# Altium footprint library airu-board.PCBLIB: 118 footprints (part 3 of 8)
Each footprint in its own frame and in the unit in brackets; x right, y up, seen from the top. Pads: shape width x height; smd on the part's side, far side on the other; paste and mask are expansions set on the pad; w line width, h text height; cw(c..) or ccw(c..) is an arc to the next point about the centre after c.
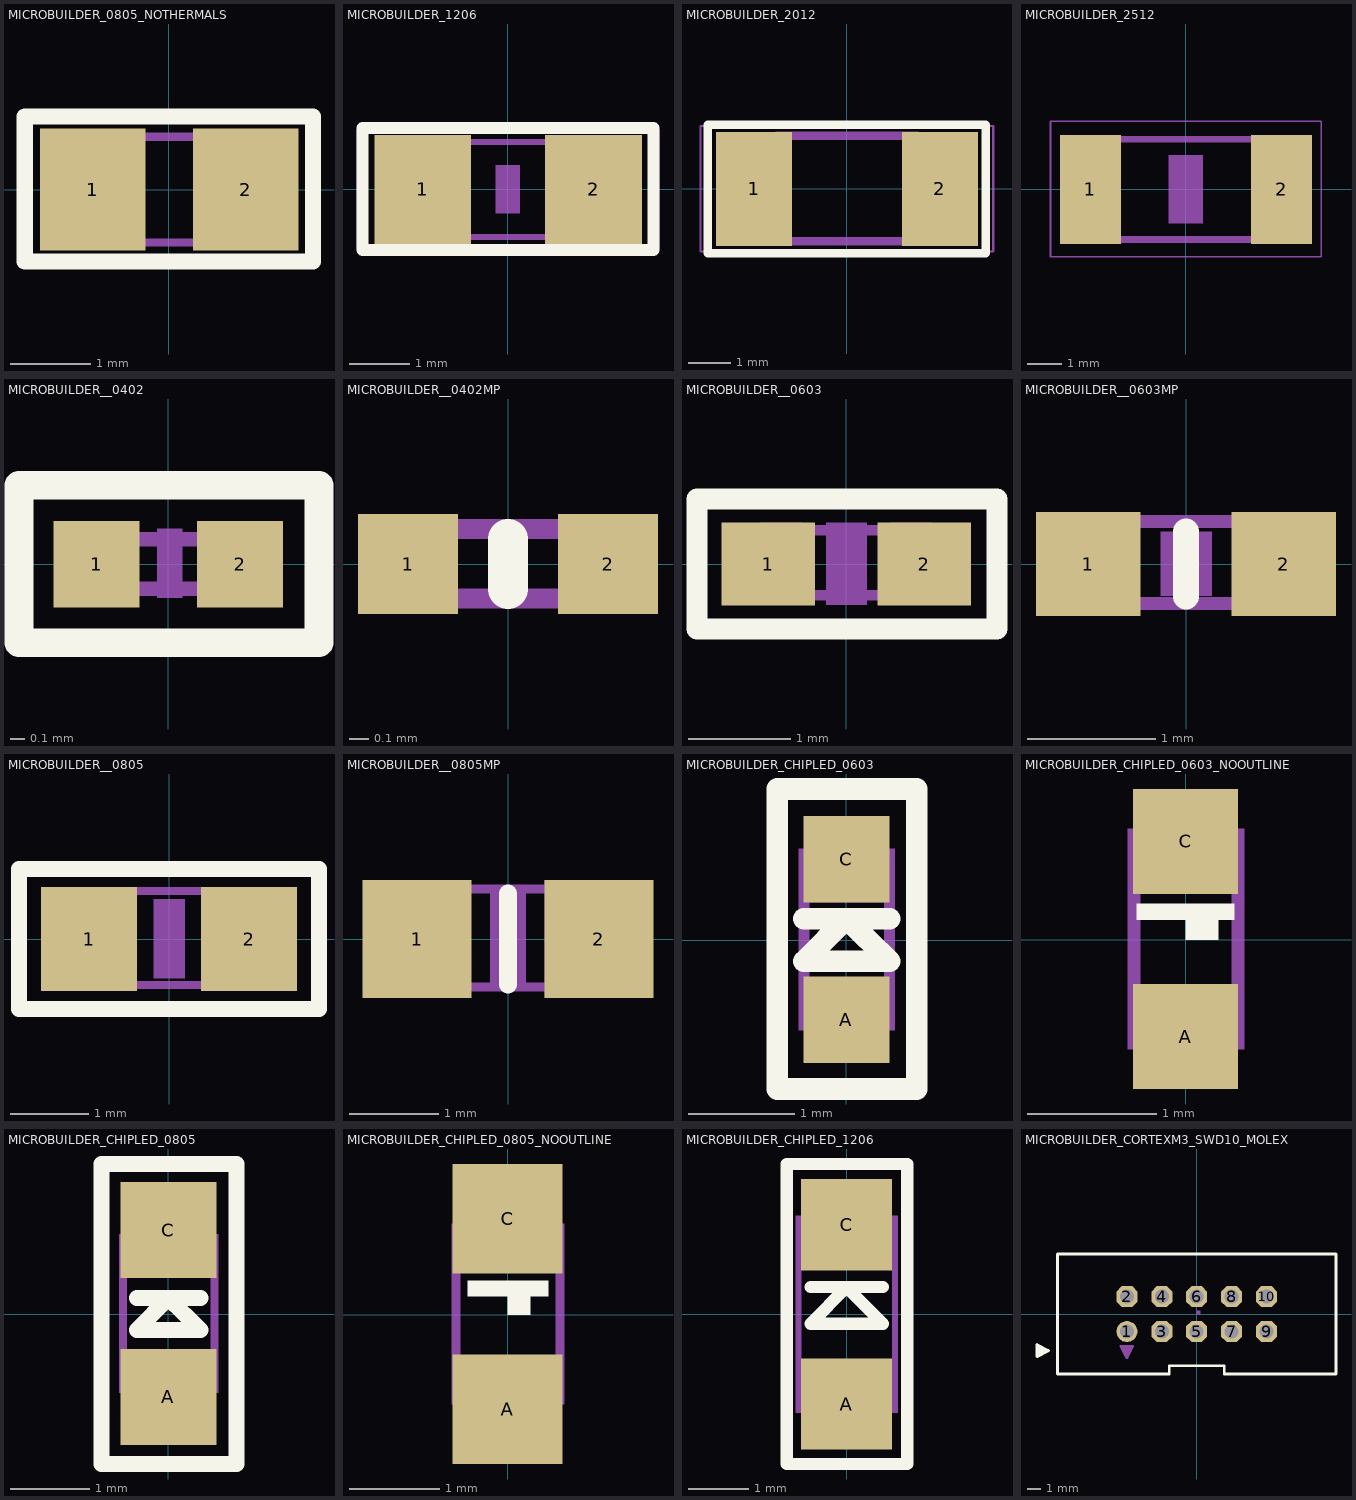
[diagram p2: the footprints below, top view; thin cyan lines are the x and y axes]

## MICROBUILDER_0805_NOTHERMALS [mil]
pads (2):
  rect 52x60 smd: 1(-37.4,0) 2(38,0)
Top Overlay:
  lines w8: -70.87,-35.43 71,-35.43 71,36 -70.87,36 -70.87,-35.43
Mechanical 16:
  rectangle: -43,-28.5 -13.47,29
  rectangle: 14,-28.5 44,29
  lines w4: -15,26 15,26 ; -14.02,-25.98 15,-25.98
Mechanical 27:
  lines w2: -73.74,-34.76 74,-34.76 74,35 -73.74,35 -73.74,-34.76

## MICROBUILDER_1206 [mil]
pads (2):
  rect 63x71 smd: 1(-55.12,0) 2(56,0)
Top Overlay:
  lines w8: -94.49,-39.37 95,-39.37 95,40 -94.49,40 -94.49,-39.37
Mechanical 6:
  rectangle: -7.87,-15.75 8,16
Mechanical 16:
  rectangle: -67,-33.5 -37.47,34
  rectangle: 38,-33.43 67,34
  lines w4: -37.99,-30.98 38,-30.98 ; -37.99,31 38,31
Mechanical 27:
  lines w2: -97.36,-38.7 98,-38.7 98,39 -97.36,39 -97.36,-38.7

## MICROBUILDER_2012 [mil]
pads (2):
  rect 71x107 smd: 1(-86.61,0) 2(87,0)
Top Overlay:
  lines w8: -130,-60 130,-60 130,60 -130,60 -130,-60
Mechanical 16:
  rectangle: -98,-52 -64.54,53
  rectangle: 65,-52 99,53
  lines w8: -65.43,50 66,50 ; -64.45,-49.02 67,-49.02
Mechanical 27:
  lines w2: -136.73,-58.39 137,-58.39 137,59 -136.73,59 -136.73,-58.39

## MICROBUILDER_2512 [mil]
pads (2):
  rect 71x126 smd: 1(-110.24,0) 2(111,0)
Mechanical 6:
  rectangle: -19.69,-39.37 20,40
Mechanical 16:
  rectangle: -126,-61 -92.54,62
  rectangle: 93,-61 127,62
  lines w8: -92.99,-57.99 94,-57.99 ; -92.99,58 94,58
Mechanical 27:
  lines w2: -156.42,-78.07 157,-78.07 157,79 -156.42,79 -156.42,-78.07

## MICROBUILDER__0402 [mil]
pads (2):
  rect 24x24 smd: 1(-20,0) 2(20,0)
Top Overlay:
  lines w8: -41.63,-21.88 42,-21.87 42,22 -41.63,22 -41.63,-21.88
Mechanical 6:
  rectangle: -3.13,-9.37 4,10
Mechanical 16:
  rectangle: 10,-9.84 20,10
  rectangle: -19.68,-9.84 -9.84,10
  lines w4: -9.65,-6.85 10,-6.85 ; -9.65,7 10,7

## MICROBUILDER__0402MP [mil]
pads (2):
  rect 20x20 smd: 1(-20,0) 2(20,0)
Top Overlay:
  lines w8: 0,-5 0,5
Mechanical 6:
  rectangle: -3.94,-7.87 4,8
Mechanical 16:
  rectangle: -19.68,-9.84 -10,10
  rectangle: 11,-9.84 20,10
  lines w4: -9.65,-6.85 10,-6.85 ; -9.65,7 10,7

## MICROBUILDER__0603 [mil]
pads (2):
  rect 36x32 smd: 1(-30,0) 2(30,0)
Top Overlay:
  lines w8: -57.5,-25 58,-25 58,25 -57.5,25 -57.5,-25
Mechanical 6:
  rectangle: -7.87,-15.75 8,16
Mechanical 16:
  rectangle: 17,-15.75 33,16
  rectangle: -33,-15.75 -17,16
  lines w4: -17.01,-12.05 18,-12.05 ; -17.01,13 18,13

## MICROBUILDER__0603MP [mil]
pads (2):
  rect 32x32 smd: 1(-30,0) 2(30,0)
Top Overlay:
  lines w8: 0,-10 0,10
Mechanical 6:
  rectangle: -7.87,-9.84 8,10
Mechanical 16:
  rectangle: 17,-15.75 32,16
  rectangle: -31.5,-15.75 -17,16
  lines w4: -17.01,-12.05 18,-12.05 ; -17.01,13 18,13

## MICROBUILDER__0805 [mil]
pads (2):
  rect 48x52 smd: 1(-40,0) 2(40,0)
Top Overlay:
  lines w8: -75,-35 75,-35 75,35 -75,35 -75,-35
Mechanical 6:
  rectangle: -7.87,-19.69 8,20
Mechanical 16:
  rectangle: 16,-25.59 42,26
  rectangle: -42,-25.59 -16.41,26
  lines w4: -16.14,-23.03 17,-23.03 ; -16.14,24 17,24

## MICROBUILDER__0805MP [mil]
pads (2):
  rect 48x52 smd: 1(-40,0) 2(40,0)
Top Overlay:
  lines w8: 0,-20 0,20
Mechanical 6:
  rectangle: -7.87,-19.69 8,20
Mechanical 16:
  rectangle: 16,-25.59 40,26
  rectangle: -39.37,-25.59 -16.41,26
  lines w4: -20.08,-21.06 21,-21.06 ; -20.08,22 21,22

## MICROBUILDER_CHIPLED_0603 [mil]
pads (2):
  rect 32x32 smd: A(0,-29.53) C(0,30)
Top Overlay:
  lines w8: -15.75,8 0,8 ; 16,8 0,8 ; 0,8 -15.75,-7.87 16,-7.87 0,8 ; -25.59,-55.12 -25.59,56 26,56 26,-55.12 -25.59,-55.12
Mechanical 16:
  circle w2: c-13.78,25 r3
  rectangle: -17.72,28 -9.84,34
  rectangle: -10.83,22 -8.86,24
  rectangle: -17.72,14 -15.75,29
  rectangle: 10,22 18,34
  rectangle: -17.72,14 18,23
  rectangle: -17.72,-33.46 -9.84,-13.78
  rectangle: 10,-33.46 18,-13.78
  rectangle: -10.83,-22.64 11,-13.78
  rectangle: -10.83,-25.59 -6.89,-21.65
  rectangle: 7,-25.59 11,-21.65
  lines w2: -10.83,-32.48 cw(c0.09,-32.48) 11,-32.48
  lines w4: -15.75,-13.78 -15.75,15 ; -11.81,32 ccw(c0.09,33.04) 12,32 ; 16,-13.78 16,14

## MICROBUILDER_CHIPLED_0603_NOOUTLINE [mil]
pads (2):
  rect 32x32 smd: A(0,-29.53) C(0,30)
Top Overlay:
  rectangle: -15,6 15,11
  region: 0,0 10,0 10,10 0,10
Mechanical 16:
  circle w2: c-13.78,25 r3
  rectangle: -17.72,28 -9.84,34
  rectangle: -10.83,22 -8.86,24
  rectangle: -17.72,14 -15.75,29
  rectangle: 10,22 18,34
  rectangle: -17.72,14 18,23
  rectangle: -17.72,-33.46 -9.84,-13.78
  rectangle: 10,-33.46 18,-13.78
  rectangle: -10.83,-22.64 11,-13.78
  rectangle: -10.83,-25.59 -6.89,-21.65
  rectangle: 7,-25.59 11,-21.65
  lines w2: -10.83,-32.48 cw(c0.09,-32.48) 11,-32.48
  lines w4: -15.75,-13.78 -15.75,15 ; -11.81,32 ccw(c0.09,33.04) 12,32 ; 16,-13.78 16,14

## MICROBUILDER_CHIPLED_0805 [mil]
pads (2):
  rect 48x48 smd: A(0,-41.34) C(0,42)
Top Overlay:
  lines w8: -15.75,8 0,8 ; 16,8 0,8 ; 0,8 -15.75,-7.87 16,-7.87 0,8 ; -33.46,-74.8 34,-74.8 34,75 -33.46,75 -33.46,-74.8
Mechanical 16:
  circle w3: c-17.72,34 r5
  rectangle: 12,20 25,40
  rectangle: -12.8,20 -6.89,30
  rectangle: 7,20 13,30
  rectangle: -7.87,20 8,27
  rectangle: 12,-39.37 25,-19.68
  rectangle: -24.61,-39.37 -11.81,-19.68
  rectangle: 7,-29.53 13,-19.68
  rectangle: -12.8,-29.53 -6.89,-19.68
  rectangle: -7.87,-26.57 8,-19.68
  rectangle: -23.62,20 -11.81,30
  rectangle: -24.61,37 -11.81,40
  lines w4: -22.64,-19.68 -22.64,37 ; -13.78,-36.42 cw(c0.11,-38.57) 14,-36.42 ; -13.78,37 ccw(c0.11,39.15) 14,37 ; 23,-20.67 23,21
  text "A" at -3.94,-55.12 h15.5
  text "C" at -3.94,48 h15.5

## MICROBUILDER_CHIPLED_0805_NOOUTLINE [mil]
pads (2):
  rect 48x48 smd: A(0,-41.34) C(0,42)
Top Overlay:
  rectangle: -17.5,8 18,15
  region: 0,0 10,0 10,10 0,10
Mechanical 16:
  circle w3: c-17.72,34 r5
  rectangle: 12,20 25,40
  rectangle: -12.8,20 -6.89,30
  rectangle: 7,20 13,30
  rectangle: -7.87,20 8,27
  rectangle: 12,-39.37 25,-19.68
  rectangle: -24.61,-39.37 -11.81,-19.68
  rectangle: 7,-29.53 13,-19.68
  rectangle: -12.8,-29.53 -6.89,-19.68
  rectangle: -7.87,-26.57 8,-19.68
  rectangle: -23.62,20 -11.81,30
  rectangle: -24.61,37 -11.81,40
  lines w4: -22.64,-19.68 -22.64,37 ; -13.78,-36.42 cw(c0.11,-38.57) 14,-36.42 ; -13.78,37 ccw(c0.11,39.15) 14,37 ; 23,-20.67 23,21
  text "A" at -3.94,-55.12 h15.5
  text "C" at -3.94,48 h15.5

## MICROBUILDER_CHIPLED_1206 [mil]
pads (2):
  rect 60x60 smd: A(0,-58.9) C(0,59)
Top Overlay:
  lines w8: -23.62,18 0,18 ; 24,18 0,18 ; 0,18 -23.62,-6.06 24,-6.06 0,18 ; -39.37,-98.37 -39.37,99 40,99 40,-98.37 -39.37,-98.37
Mechanical 16:
  circle w3: c-21.65,57 r4
  rectangle: -33.46,61 -13.78,65
  rectangle: -33.46,49 -24.61,62
  rectangle: -17.72,49 -12.8,58
  rectangle: -25.59,49 -8.86,54
  rectangle: 14,52 34,65
  rectangle: 10,49 34,54
  rectangle: -33.46,38 34,50
  rectangle: -33.46,-64.96 34,-37.4
  lines w4: -31.5,-37.4 -31.5,38 ; -15.75,63 ccw(c0.13,64.02) 16,63 ; 32,-37.4 32,38
  text "A" at -3.94,-87.8 h24.8
  text "C" at -3.94,74 h24.8

## MICROBUILDER_CORTEXM3_SWD10_MOLEX [mil]
pads (10):
  round 60 hole 40: 1(-200,-50)
  oct 60x60 hole 40: 2(-200,50) 3(-100,-50) 4(-100,50) 5(0,-50) 6(0,50) 7(100,-50) 8(100,50) 9(200,-50) 10(200,50)
Top Overlay:
  region: -440.37,-114.37 -440.37,-94.37 -450.37,-94.37 -450.37,-114.37
  region: -450.37,-119.37 -450.37,-104.37 -455.37,-104.37 -455.37,-119.37
  region: -450.37,-104.37 -450.37,-89.37 -455.37,-89.37 -455.37,-104.37
  region: -432.37,-109.37 -432.37,-99.37 -442.37,-99.37 -442.37,-109.37
  lines w8: -434.37,-104.37 -424.37,-104.37 ; -424.37,-104.37 -457.37,-87.37 -457.37,-121.37 -424.37,-104.37 ; -398.62,-171.26 -398.62,172 399,172 399,-171.26 79,-171.26 79,-147.64 -78.74,-147.64 -78.74,-171.26 -398.62,-171.26
Mechanical 8:
  region: 0,0 10,0 10,10 0,10
  region: 0,0 10,0 10,10 0,10
  region: 0,0 10,0 10,10 0,10
  region: 0,0 10,0 10,10 0,10
  region: 0,0 10,0 10,10 0,10
  region: 0,0 10,0 10,10 0,10
  region: 0,0 10,0 10,10 0,10
  region: 0,0 10,0 10,10 0,10
  region: 0,0 10,0 10,10 0,10
  region: 0,0 10,0 10,10 0,10
  region: 0,0 10,0 10,10 0,10
  region: 0,0 10,0 10,10 0,10
Mechanical 9:
  region: 0,0 10,0 10,10 0,10
  region: 0,0 10,0 10,10 0,10
  region: 0,0 10,0 10,10 0,10
  region: 0,0 10,0 10,10 0,10
  region: 0,0 10,0 10,10 0,10
  region: 0,0 10,0 10,10 0,10
  region: 0,0 10,0 10,10 0,10
  region: 0,0 10,0 10,10 0,10
  region: 0,0 10,0 10,10 0,10
  region: 0,0 10,0 10,10 0,10
  region: 0,0 10,0 10,10 0,10
  region: 0,0 10,0 10,10 0,10
Mechanical 16:
  rectangle: -210,-109 -190,-99
  rectangle: -215,-99 -200,-94
  rectangle: -200,-99 -185,-94
  rectangle: -205,-117 -195,-107
  lines w8: -200,-115 -200,-125 ; -200,-125 -183,-92 -217,-92 -200,-125
  text "1" at -285.43,-78.74 h77.5